# Altium schematic symbol library XC6222.SchLib: 1 symbol
Pins are listed as number, name and electrical type; pins without a type are passive.

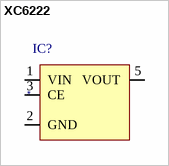
[diagram p0: symbol XC6222]

## XC6222
designator IC?
ID: XC6222B281MR-G; PDF: http://media.digikey.com/pdf/Data%20Sheets/Torex/XC6222.pdf; BUY_LINK: http://www.digikey.com/product-detail/en/XC6222B281MR-G/893-1141-6-ND/2138479; PRICE: 0.70000
footprint SOT25
pins: 1 VIN, 2 GND, 3 CE, 5 VOUT